# Altium schematic symbol library MODULE.SCHLIB: 17 symbols
Pins are listed as number, name and electrical type; pins without a type are passive.

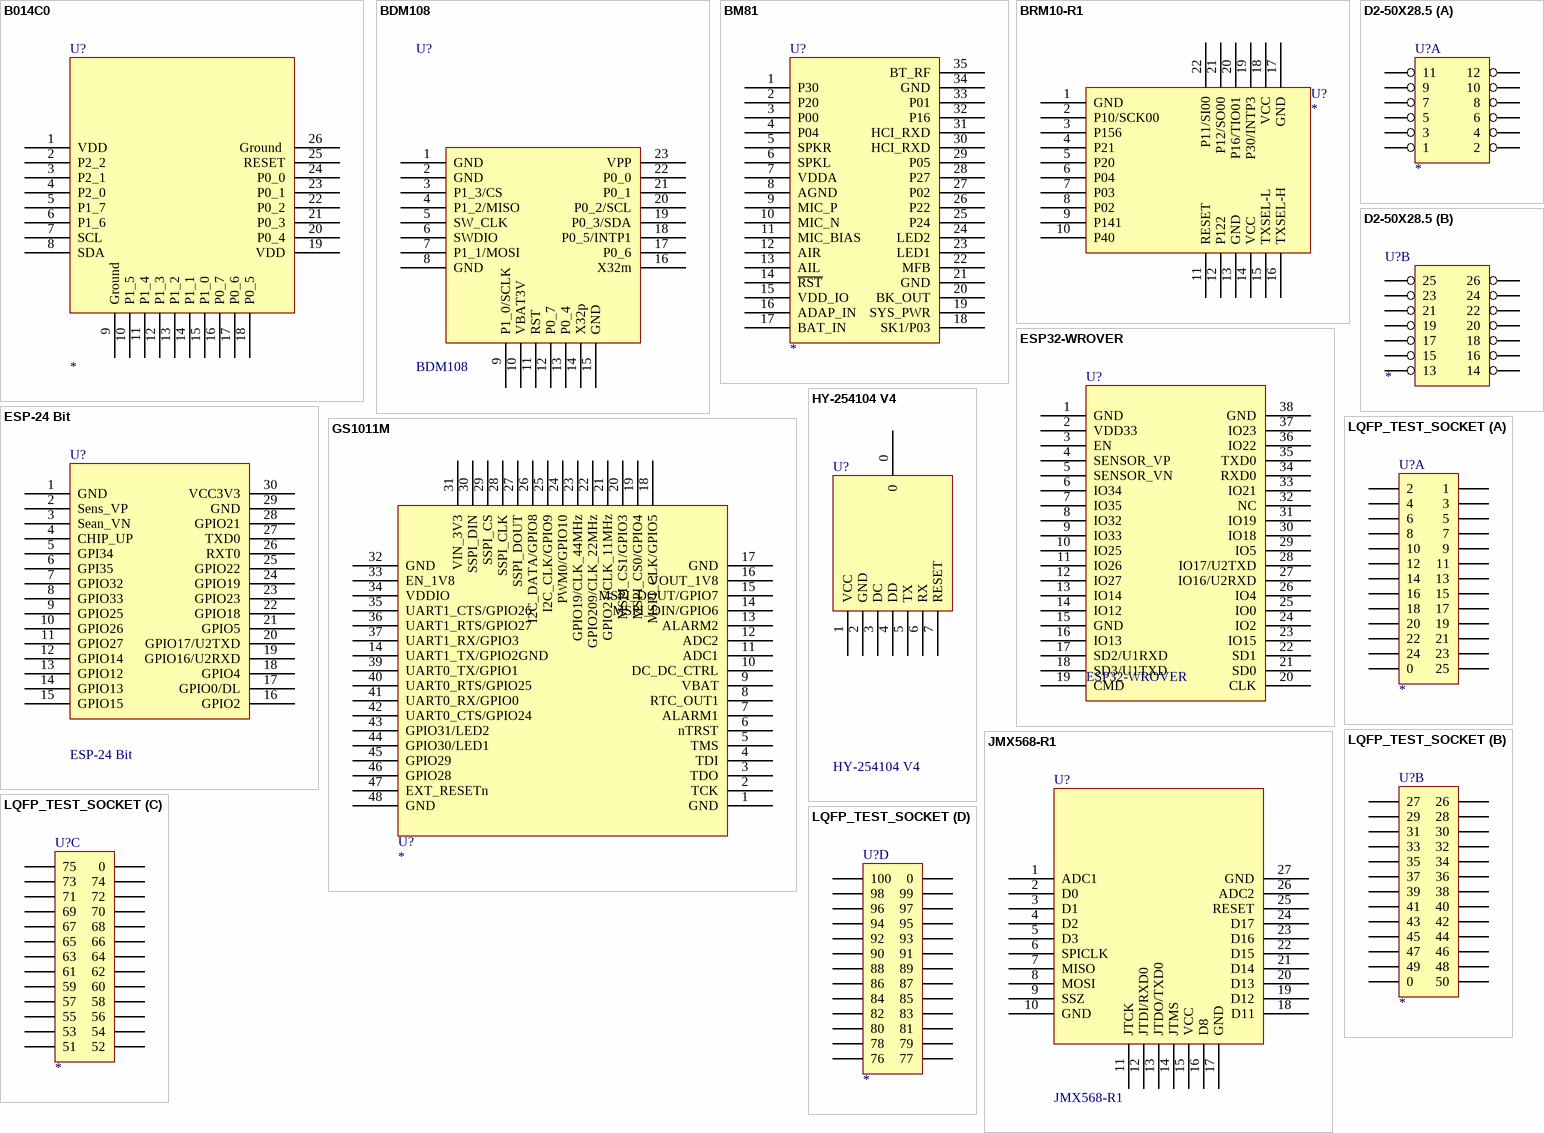
[diagram p0: symbols B014C0 to LQFP_TEST_SOCKET]

## B014C0
designator U?
footprint B014C0
pins: 1 VDD , 2 P2_2 , 3 P2_1 , 4 P2_0 , 5 P1_7 , 6 P1_6 , 7 SCL, 8 SDA , 9 Ground , 10 P1_5 , 11 P1_4 , 12 P1_3 , 13 P1_2 , 14 P1_1 , 15 P1_0 , 16 P0_7 , 17 P0_6, 18 P0_5, 19 VDD, 20 P0_4, 21 P0_3, 22 P0_2, 23 P0_1, 24 P0_0, 25 RESET, 26 Ground 
2 alternate drawings of the same symbol

## BDM108
designator U?
footprint BDM-108-board
pins: 1 GND, 2 GND, 3 P1_3/CS, 4 P1_2/MISO, 5 SW_CLK, 6 SWDIO, 7 P1_1/MOSI, 8 GND, 9 P1_0/SCLK, 10 VBAT3V, 11 RST, 12 P0_7, 13 P0_4, 14 X32p, 15 GND, 16 X32m, 17 P0_6, 18 P0_5/INTP1, 19 P0_3/SDA, 20 P0_2/SCL, 21 P0_1, 22 P0_0, 23 VPP
2 alternate drawings of the same symbol

## BM81
designator U?
footprint BM81
pins: 1 P30, 2 P20, 3 P00, 4 P04, 5 SPKR, 6 SPKL, 7 VDDA, 8 AGND, 9 MIC_P, 10 MIC_N, 11 MIC_BIAS, 12 AIR, 13 AIL, 14 ~{RST}, 15 VDD_IO, 16 ADAP_IN, 17 BAT_IN, 18 SK1/P03, 19 SYS_PWR, 20 BK_OUT, 21 GND, 22 MFB, 23 LED1, 24 LED2, 25 P24, 26 P22, 27 P02, 28 P27, 29 P05, 30 HCI_RXD, 31 HCI_RXD, 32 P16, 33 P01, 34 GND, 35 BT_RF

## BRM10-R1
designator U?
footprint BRM10
pins: 1 GND, 2 P10/SCK00, 3 P156, 4 P21, 5 P20, 6 P04, 7 P03, 8 P02, 9 P141, 10 P40, 11 RESET, 12 P122, 13 GND, 14 VCC, 15 TXSEL-L, 16 TXSEL-H, 17 GND, 18 VCC, 19 P30/INTP3, 20 P16/TIO01, 21 P12/SO00, 22 P11/SI00
2 alternate drawings of the same symbol

## D2-50X28.5
designator U?
footprint D2-80X28.5
part A pins: 1, 2, 3, 4, 5, 6, 7, 8, 9, 10, 11, 12
part B pins: 13, 14, 15, 16, 17, 18, 19, 20, 21, 22, 23, 24, 25, 26

## ESP32-WROVER
designator U?
footprint BM81
pins: 1 GND, 2 VDD33, 3 EN, 4 SENSOR_VP, 5 SENSOR_VN, 6 IO34, 7 IO35, 8 IO32, 9 IO33, 10 IO25, 11 IO26, 12 IO27, 13 IO14, 14 IO12, 15 GND, 16 IO13, 17 SD2/U1RXD, 18 SD3/U1TXD, 19 CMD, 20 CLK, 21 SD0, 22 SD1, 23 IO15, 24 IO2, 25 IO0, 26 IO4, 27 IO16/U2RXD, 28 IO17/U2TXD, 29 IO5, 30 IO18, 31 IO19, 32 NC, 33 IO21, 34 RXD0, 35 TXD0, 36 IO22, 37 IO23, 38 GND

## ESP-24 Bit
designator U?
footprint BM81
pins: 1 GND, 2 Sens_VP, 3 Sean_VN, 4 CHIP_UP, 5 GPI34, 6 GPI35, 7 GPIO32, 8 GPIO33, 9 GPIO25, 10 GPIO26, 11 GPIO27, 12 GPIO14, 13 GPIO12, 14 GPIO13, 15 GPIO15, 16 GPIO2, 17 GPIO0/DL, 18 GPIO4, 19 GPIO16/U2RXD, 20 GPIO17/U2TXD, 21 GPIO5, 22 GPIO18, 23 GPIO23, 24 GPIO19, 25 GPIO22, 26 RXT0, 27 TXD0, 28 GPIO21, 29 GND, 30 VCC3V3

## GS1011M
designator U?
footprint GS1011M
pins: 1 GND, 2 TCK, 3 TDO, 4 TDI, 5 TMS, 6 nTRST, 7 ALARM1, 8 RTC_OUT1, 9 VBAT, 10 DC_DC_CTRL, 11 ADC1, 12 ADC2, 13 ALARM2, 14 UART1_TX/GPIO2GND, 14 MSPI_DIN/GPIO6, 15 MSPI_DOUT/GPIO7, 16 VOUT_1V8, 17 GND, 18 MSPI_CLK/GPIO5, 19 MSPI_CS0/GPIO4, 20 MSPI_CS1/GPIO3, 21 GPIO21/CLK_11MHz, 22 GPIO209/CLK_22MHz, 23 GPIO19/CLK_44MHz, 24 PWM0/GPIO10, 25 I2C_CLK/GPIO9, 26 I2C_DATA/GPIO8, 27 SSPI_DOUT, 28 SSPI_CLK, 29 SSPI_CS, 30 SSPI_DIN, 31 VIN_3V3, 32 GND (power), 33 EN_1V8, 34 VDDIO (power), 35 UART1_CTS/GPIO26, 36 UART1_RTS/GPIO27, 37 UART1_RX/GPIO3, 39 UART0_TX/GPIO1, 40 UART0_RTS/GPIO25, 41 UART0_RX/GPIO0, 42 UART0_CTS/GPIO24, 43 GPIO31/LED2, 44 GPIO30/LED1, 45 GPIO29, 46 GPIO28, 47 EXT_RESETn, 48 GND
2 alternate drawings of the same symbol

## HY-254104 V4
designator U?
pins: 0, 1 VCC, 2 GND, 3 DC, 4 DD, 5 TX, 6 RX, 7 RESET

## JMX568-R1
designator U?
footprint JMX568-R1_27P
pins: 1 ADC1, 2 D0, 3 D1, 4 D2, 5 D3, 6 SPICLK, 7 MISO, 8 MOSI, 9 SSZ, 10 GND, 11 JTCK, 12 JTDI/RXD0, 13 JTDO/TXD0, 14 JTMS, 15 VCC, 16 D8, 17 GND, 18 D11, 19 D12, 20 D13, 21 D14, 22 D15, 23 D16, 24 D17, 25 RESET, 26 ADC2, 27 GND
2 alternate drawings of the same symbol

## LQFP_TEST_SOCKET
designator U?
footprint LQFP100_TEST_SOCKET
part A pins: 0, 1, 2, 3, 4, 5, 6, 7, 8, 9, 10, 11, 12, 13, 14, 15, 16, 17, 18, 19, 20, 21, 22, 23, 24, 25
part B pins: 0, 26, 27, 28, 29, 30, 31, 32, 33, 34, 35, 36, 37, 38, 39, 40, 41, 42, 43, 44, 45, 46, 47, 48, 49, 50
part C pins: 0, 51, 52, 53, 54, 55, 56, 57, 58, 59, 60, 61, 62, 63, 64, 65, 66, 67, 68, 69, 70, 71, 72, 73, 74, 75
part D pins: 0, 76, 77, 78, 79, 80, 81, 82, 83, 84, 85, 86, 87, 88, 89, 90, 91, 92, 93, 94, 95, 96, 97, 98, 99, 100

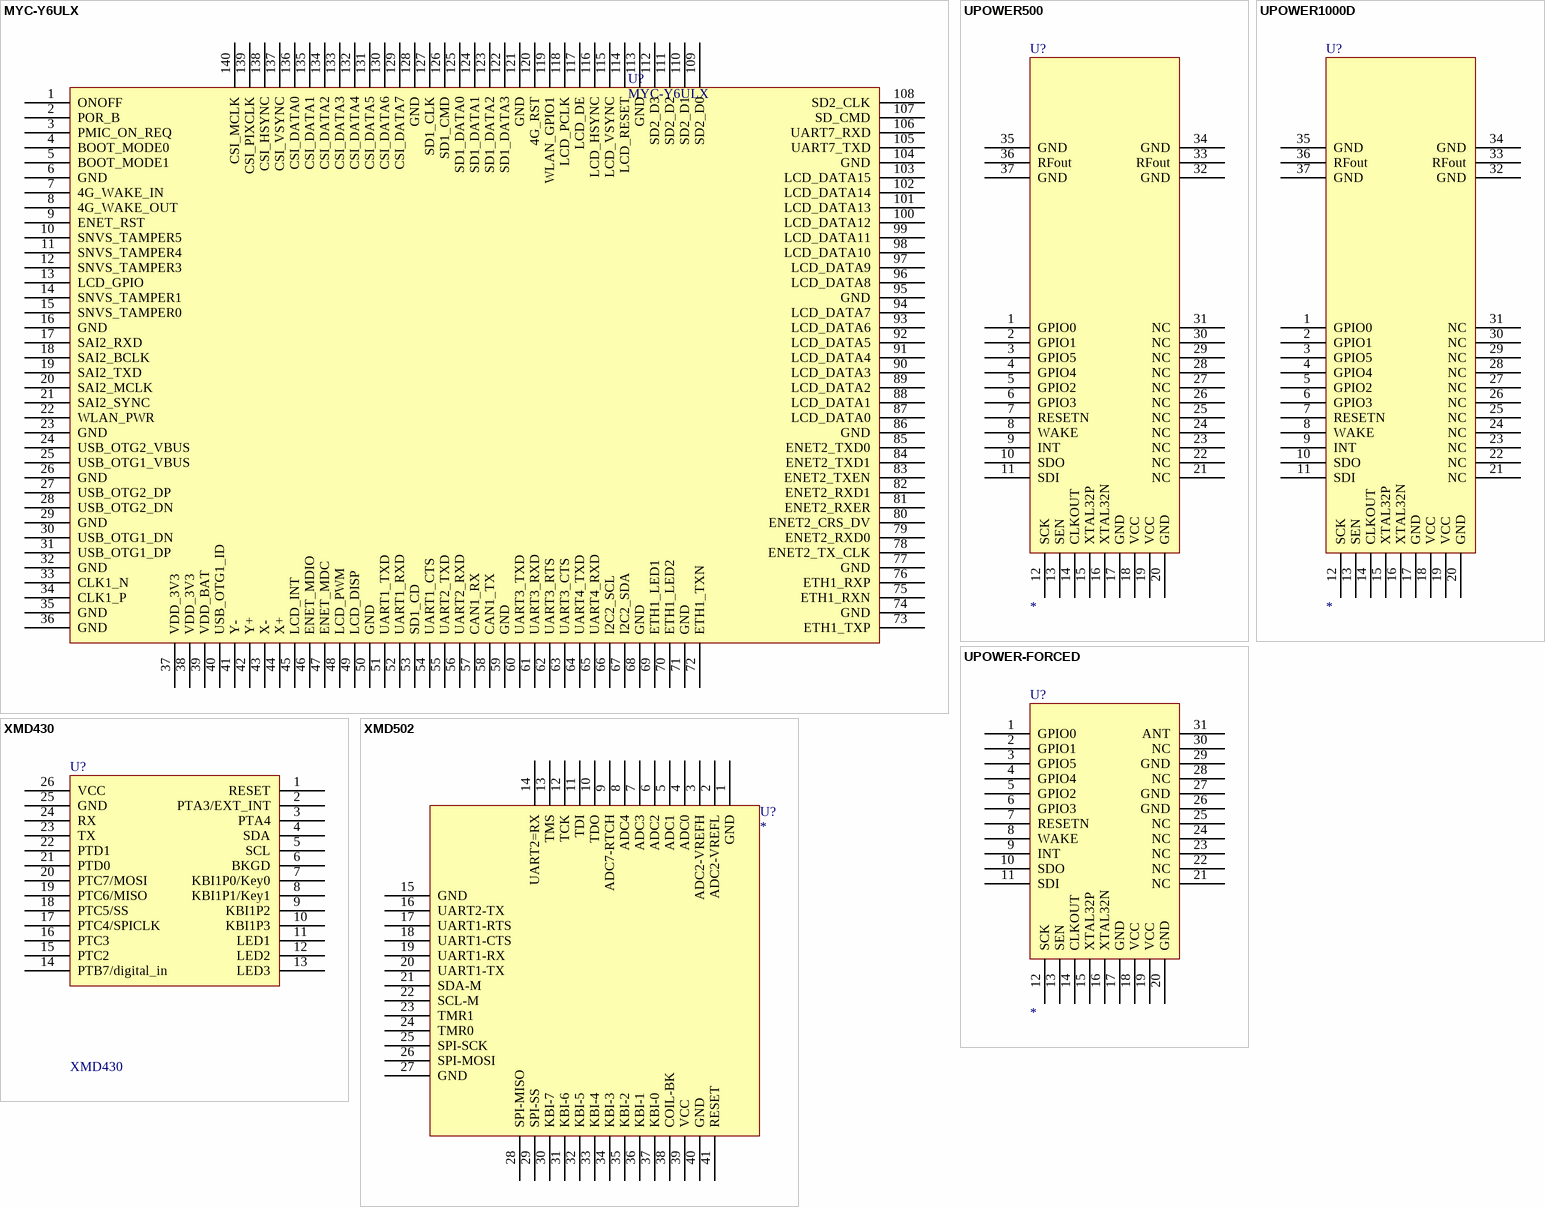
[diagram p1: symbols MYC-Y6ULX to XMD502]

## MYC-Y6ULX
designator U?
footprint TQFP100P
pins: 1 ONOFF, 2 POR_B, 3 PMIC_ON_REQ, 4 BOOT_MODE0, 5 BOOT_MODE1, 6 GND, 7 4G_WAKE_IN, 8 4G_WAKE_OUT, 9 ENET_RST, 10 SNVS_TAMPER5, 11 SNVS_TAMPER4, 12 SNVS_TAMPER3, 13 LCD_GPIO, 14 SNVS_TAMPER1, 15 SNVS_TAMPER0, 16 GND, 17 SAI2_RXD, 18 SAI2_BCLK, 19 SAI2_TXD, 20 SAI2_MCLK, 21 SAI2_SYNC, 22 WLAN_PWR, 23 GND, 24 USB_OTG2_VBUS, 25 USB_OTG1_VBUS, 26 GND, 27 USB_OTG2_DP, 28 USB_OTG2_DN, 29 GND, 30 USB_OTG1_DN, 31 USB_OTG1_DP, 32 GND, 33 CLK1_N, 34 CLK1_P, 35 GND, 36 GND, 37 VDD_3V3, 38 VDD_3V3, 39 VDD_BAT, 40 USB_OTG1_ID, 41 Y-, 42 Y+, 43 X-, 44 X+, 45 LCD_INT, 46 ENET_MDIO, 47 ENET_MDC, 48 LCD_PWM, 49 LCD_DISP, 50 GND, 51 UART1_TXD, 52 UART1_RXD, 53 SD1_CD, 54 UART1_CTS, 55 UART2_TXD, 56 UART2_RXD, 57 CAN1_RX, 58 CAN1_TX, 59 GND, 60 UART3_TXD, 61 UART3_RXD, 62 UART3_RTS, 63 UART3_CTS, 64 UART4_TXD, 65 UART4_RXD, 66 I2C2_SCL, 67 I2C2_SDA, 68 GND, 69 ETH1_LED1, 70 ETH1_LED2, 71 GND, 72 ETH1_TXN, 73 ETH1_TXP, 74 GND, 75 ETH1_RXN, 76 ETH1_RXP, 77 GND, 78 ENET2_TX_CLK, 79 ENET2_RXD0, 80 ENET2_CRS_DV, 81 ENET2_RXER, 82 ENET2_RXD1, 83 ENET2_TXEN, 84 ENET2_TXD1, 85 ENET2_TXD0, 86 GND, 87 LCD_DATA0, 88 LCD_DATA1, 89 LCD_DATA2, 90 LCD_DATA3, 91 LCD_DATA4, 92 LCD_DATA5, 93 LCD_DATA6, 94 LCD_DATA7, 95 GND, 96 LCD_DATA8, 97 LCD_DATA9, 98 LCD_DATA10, 99 LCD_DATA11, 100 LCD_DATA12, 101 LCD_DATA13, 102 LCD_DATA14, 103 LCD_DATA15, 104 GND, 105 UART7_TXD, 106 UART7_RXD, 107 SD_CMD, 108 SD2_CLK, 109 SD2_D0, 110 SD2_D1, 111 SD2_D2, 112 SD2_D3, 113 GND, 114 LCD_RESET, 115 LCD_VSYNC, 116 LCD_HSYNC, 117 LCD_DE, 118 LCD_PCLK, 119 WLAN_GPIO1, 120 4G_RST, 121 GND, 122 SD1_DATA3, 123 SD1_DATA2, 124 SD1_DATA1, 125 SD1_DATA0, 126 SD1_CMD, 127 SD1_CLK, 128 GND, 129 CSI_DATA7, 130 CSI_DATA6, 131 CSI_DATA5, 132 CSI_DATA4, 133 CSI_DATA3, 134 CSI_DATA2, 135 CSI_DATA1, 136 CSI_DATA0, 137 CSI_VSYNC, 138 CSI_HSYNC, 139 CSI_PIXCLK, 140 CSI_MCLK

## UPOWER500
designator U?
footprint UPOWER500
pins: 1 GPIO0, 2 GPIO1, 3 GPIO5, 4 GPIO4, 5 GPIO2, 6 GPIO3, 7 RESETN, 8 WAKE, 9 INT, 10 SDO, 11 SDI, 12 SCK, 13 SEN, 14 CLKOUT, 15 XTAL32P, 16 XTAL32N, 17 GND, 18 VCC, 19 VCC, 20 GND, 21 NC, 22 NC, 23 NC, 24 NC, 25 NC, 26 NC, 27 NC, 28 NC, 29 NC, 30 NC, 31 NC, 32 GND, 33 RFout, 34 GND, 35 GND, 36 RFout, 37 GND
2 alternate drawings of the same symbol

## UPOWER1000D
designator U?
footprint UPOWER1000D
pins: 1 GPIO0, 2 GPIO1, 3 GPIO5, 4 GPIO4, 5 GPIO2, 6 GPIO3, 7 RESETN, 8 WAKE, 9 INT, 10 SDO, 11 SDI, 12 SCK, 13 SEN, 14 CLKOUT, 15 XTAL32P, 16 XTAL32N, 17 GND, 18 VCC, 19 VCC, 20 GND, 21 NC, 22 NC, 23 NC, 24 NC, 25 NC, 26 NC, 27 NC, 28 NC, 29 NC, 30 NC, 31 NC, 32 GND, 33 RFout, 34 GND, 35 GND, 36 RFout, 37 GND
2 alternate drawings of the same symbol

## UPOWER-FORCED
designator U?
footprint UPOWER-FORCED
pins: 1 GPIO0, 2 GPIO1, 3 GPIO5, 4 GPIO4, 5 GPIO2, 6 GPIO3, 7 RESETN, 8 WAKE, 9 INT, 10 SDO, 11 SDI, 12 SCK, 13 SEN, 14 CLKOUT, 15 XTAL32P, 16 XTAL32N, 17 GND, 18 VCC, 19 VCC, 20 GND, 21 NC, 22 NC, 23 NC, 24 NC, 25 NC, 26 GND, 27 GND, 28 NC, 29 GND, 30 NC, 31 ANT
2 alternate drawings of the same symbol

## XMD430
designator U?
footprint BM81
pins: 1 RESET, 2 PTA3/EXT_INT, 3 PTA4, 4 SDA, 5 SCL, 6 BKGD, 7 KBI1P0/Key0, 8 KBI1P1/Key1, 9 KBI1P2, 10 KBI1P3, 11 LED1, 12 LED2, 13 LED3, 14 PTB7/digital_in, 15 PTC2, 16 PTC3, 17 PTC4/SPICLK, 18 PTC5/SS, 19 PTC6/MISO, 20 PTC7/MOSI, 21 PTD0, 22 PTD1, 23 TX, 24 RX, 25 GND, 26 VCC

## XMD502
designator U?
footprint XMD502
pins: 1 GND, 2 ADC2-VREFL, 3 ADC2-VREFH, 4 ADC0, 5 ADC1, 6 ADC2, 7 ADC3, 8 ADC4, 9 ADC7-RTCH, 10 TDO, 11 TDI, 12 TCK, 13 TMS, 14 UART2=RX, 15 GND, 16 UART2-TX, 17 UART1-RTS, 18 UART1-CTS, 19 UART1-RX, 20 UART1-TX, 21 SDA-M, 22 SCL-M, 23 TMR1, 24 TMR0, 25 SPI-SCK, 26 SPI-MOSI, 27 GND, 28 SPI-MISO, 29 SPI-SS, 30 KBI-7, 31 KBI-6, 32 KBI-5 (power), 33 KBI-4, 34 KBI-3 (power), 35 KBI-2, 36 KBI-1, 37 KBI-0, 38 COIL-BK, 39 VCC, 40 GND, 41 RESET
2 alternate drawings of the same symbol